# EAGLE library part CENTRONICS_FEMALE_50 (library xess)
Centronics 50-Pin Female Receptacle
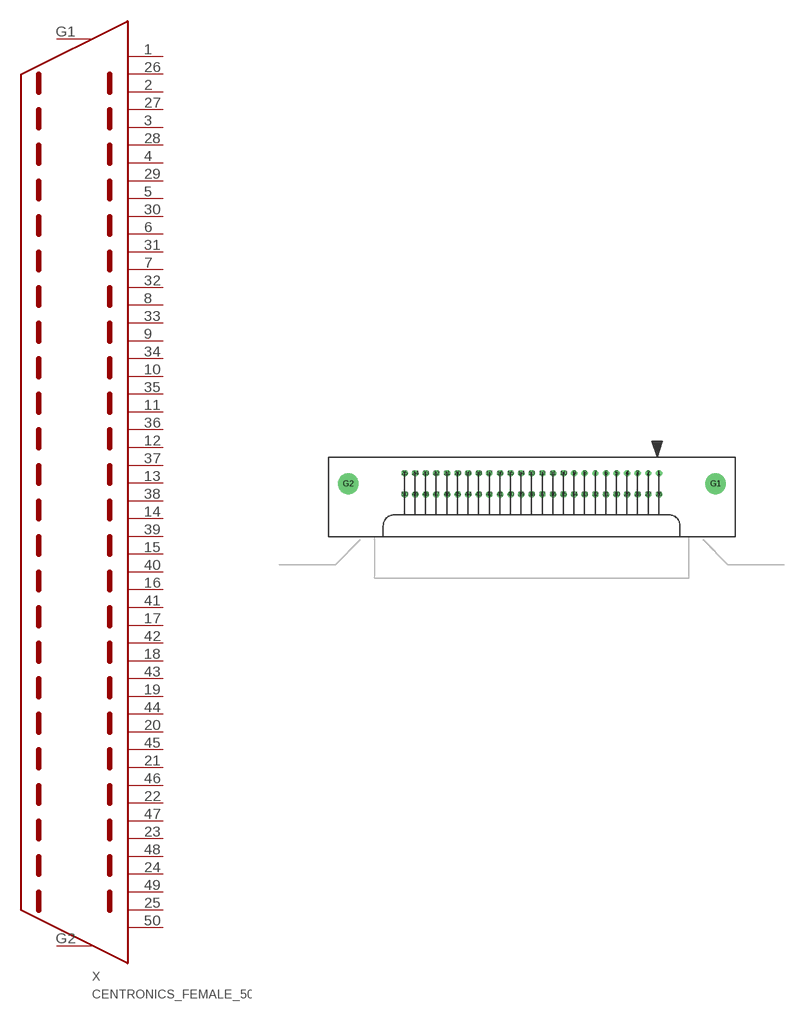
[diagram p123: symbol with the pads of 112-050-213R001; footprint 112-050-213R001]

Designator prefix X

## CENTRONICS_FEMALE_50112-050-213R001  [112-050-213R001]
1  1
2  2
3  3
4  4
5  5
6  6
7  7
8  8
9  9
10  10
11  11
12  12
13  13
14  14
15  15
16  16
17  17
18  18
19  19
20  20
21  21
22  22
23  23
24  24
25  25
26  26
27  27
28  28
29  29
30  30
31  31
32  32
33  33
34  34
35  35
36  36
37  37
38  38
39  39
40  40
41  41
42  42
43  43
44  44
45  45
46  46
47  47
48  48
49  49
50  50
G1  G1  pas
G2  G2  pas

## Footprint 112-050-213R001 (pad centres in mm)
NorComp Centronics 50-contact female D connector
drill 0.8 round: 1 -11.532,2.145; 2 -13.691,2.145; 3 -15.85,2.145; 4 -18.009,2.145; 5 -20.168,2.145; 6 -22.327,2.145; 7 -24.486,2.145; 8 -26.645,2.145; 9 -28.804,2.145; 10 -30.963,2.145; 11 -33.122,2.145; 12 -35.281,2.145; 13 -37.44,2.145; 14 -39.599,2.145; 15 -41.758,2.145; 16 -43.917,2.145; 17 -46.076,2.145; 18 -48.235,2.145; 19 -50.394,2.145; 20 -52.553,2.145; 21 -54.712,2.145; 22 -56.871,2.145; 23 -59.03,2.145; 24 -61.189,2.145; 25 -63.348,2.145; 26 -11.532,-2.145; 27 -13.691,-2.145; 28 -15.85,-2.145; 29 -18.009,-2.145; 30 -20.168,-2.145; 31 -22.327,-2.145; 32 -24.486,-2.145; 33 -26.645,-2.145; 34 -28.804,-2.145; 35 -30.963,-2.145; 36 -33.122,-2.145; 37 -35.281,-2.145; 38 -37.44,-2.145; 39 -39.599,-2.145; 40 -41.758,-2.145; 41 -43.917,-2.145; 42 -46.076,-2.145; 43 -48.235,-2.145; 44 -50.394,-2.145; 45 -52.553,-2.145; 46 -54.712,-2.145; 47 -56.871,-2.145; 48 -59.03,-2.145; 49 -61.189,-2.145; 50 -63.348,-2.145
drill 3.2 round: G1 0,0; G2 -74.854,0